# EAGLE library part BOARD_CPU_AVR_MEGA64,128 (library mylib_20130829)
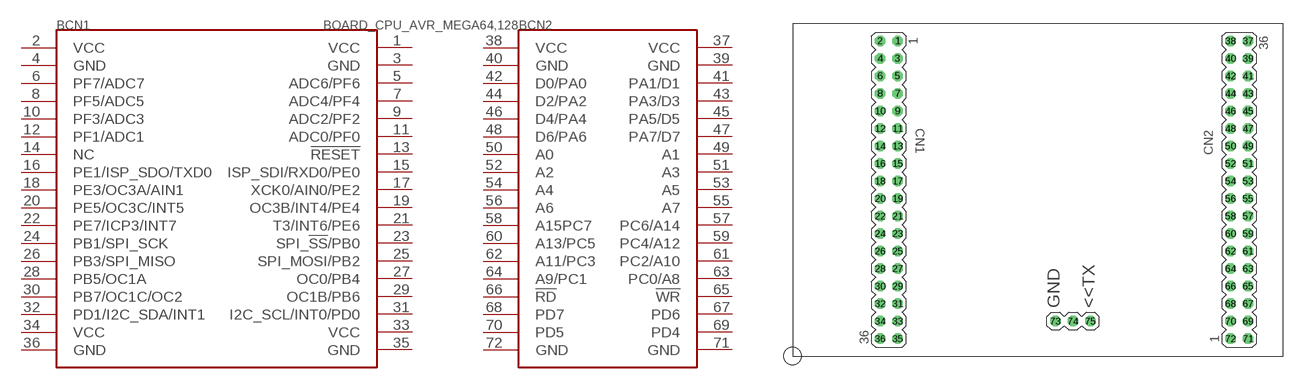
[diagram p87: symbol with the pads of BOARD_CPU_AVR_MEGA64; footprint BOARD_CPU_AVR_MEGA64]

Designator prefix B; gates CN1=BOARD_CPU_AVR_64_CN1 CN2=BOARD_CPU_AVR_64_CN2

## BOARD_CPU_AVR_MEGA64,128  [BOARD_CPU_AVR_MEGA64]
1  CN1:VCC  pwr
2  CN1:VCC  pwr
3  CN1:GND  pwr
4  CN1:GND  pwr
5  CN1:ADC6/PF6
6  CN1:PF7/ADC7
7  CN1:ADC4/PF4
8  CN1:PF5/ADC5
9  CN1:ADC2/PF2
10  CN1:PF3/ADC3
11  CN1:ADC0/PF0
12  CN1:PF1/ADC1
13  CN1:!RESET!
14  CN1:NC  nc
15  CN1:ISP_SDI/RXD0/PE0
16  CN1:PE1/ISP_SDO/TXD0
17  CN1:XCK0/AIN0/PE2
18  CN1:PE3/OC3A/AIN1
19  CN1:OC3B/INT4/PE4
20  CN1:PE5/OC3C/INT5
21  CN1:T3/INT6/PE6
22  CN1:PE7/ICP3/INT7
23  CN1:SPI_!SS!/PB0
24  CN1:PB1/SPI_SCK
25  CN1:SPI_MOSI/PB2
26  CN1:PB3/SPI_MISO
27  CN1:OC0/PB4
28  CN1:PB5/OC1A
29  CN1:OC1B/PB6
30  CN1:PB7/OC1C/OC2
31  CN1:I2C_SCL/INT0/PD0
32  CN1:PD1/I2C_SDA/INT1
33  CN1:VCC  pwr
34  CN1:VCC  pwr
35  CN1:GND  pwr
36  CN1:GND  pwr
37  CN2:VCC  pwr
38  CN2:VCC  pwr
39  CN2:GND  pwr
40  CN2:GND  pwr
41  CN2:PA1/D1
42  CN2:D0/PA0
43  CN2:PA3/D3
44  CN2:D2/PA2
45  CN2:PA5/D5
46  CN2:D4/PA4
47  CN2:PA7/D7
48  CN2:D6/PA6
49  CN2:A1
50  CN2:A0
51  CN2:A3
52  CN2:A2
53  CN2:A5
54  CN2:A4
55  CN2:A7
56  CN2:A6
57  CN2:PC6/A14
58  CN2:A15PC7
59  CN2:PC4/A12
60  CN2:A13/PC5
61  CN2:PC2/A10
62  CN2:A11/PC3
63  CN2:PC0/A8
64  CN2:A9/PC1
65  CN2:!WR!
66  CN2:!RD!
67  CN2:PD6
68  CN2:PD7
69  CN2:PD4
70  CN2:PD5
71  CN2:GND  pwr
72  CN2:GND  pwr

## Footprint BOARD_CPU_AVR_MEGA64 (pad centres in mm)
drill 1.016 octagon: 1 15.24,45.72; 2 12.7,45.72; 3 15.24,43.18; 4 12.7,43.18; 5 15.24,40.64; 6 12.7,40.64; 7 15.24,38.1; 8 12.7,38.1; 9 15.24,35.56; 10 12.7,35.56; 11 15.24,33.02; 12 12.7,33.02; 13 15.24,30.48; 14 12.7,30.48; 15 15.24,27.94; 16 12.7,27.94; 17 15.24,25.4; 18 12.7,25.4; 19 15.24,22.86; 20 12.7,22.86; 21 15.24,20.32; 22 12.7,20.32; 23 15.24,17.78; 24 12.7,17.78; 25 15.24,15.24; 26 12.7,15.24; 27 15.24,12.7; 28 12.7,12.7; 29 15.24,10.16; 30 12.7,10.16; 31 15.24,7.62; 32 12.7,7.62; 33 15.24,5.08; 34 12.7,5.08; 35 15.24,2.54; 36 12.7,2.54; 37 66.04,45.72; 38 63.5,45.72; 39 66.04,43.18; 40 63.5,43.18; 41 66.04,40.64; 42 63.5,40.64; 43 66.04,38.1; 44 63.5,38.1; 45 66.04,35.56; 46 63.5,35.56; 47 66.04,33.02; 48 63.5,33.02; 49 66.04,30.48; 50 63.5,30.48; 51 66.04,27.94; 52 63.5,27.94; 53 66.04,25.4; 54 63.5,25.4; 55 66.04,22.86; 56 63.5,22.86; 57 66.04,20.32; 58 63.5,20.32; 59 66.04,17.78; 60 63.5,17.78; 61 66.04,15.24; 62 63.5,15.24; 63 66.04,12.7; 64 63.5,12.7; 65 66.04,10.16; 66 63.5,10.16; 67 66.04,7.62; 68 63.5,7.62; 69 66.04,5.08; 70 63.5,5.08; 71 66.04,2.54; 72 63.5,2.54; 73 38.1,5.08; 74 40.64,5.08; 75 43.18,5.08